# Altium footprint library EFC8811R-TF.PcbLib: 1 footprints
Each footprint in its own frame and in the unit in brackets; x right, y up, seen from the top. Pads: shape width x height; smd on the part's side, far side on the other; paste and mask are expansions set on the pad; w line width, h text height; cw(c..) or ccw(c..) is an arc to the next point about the centre after c.
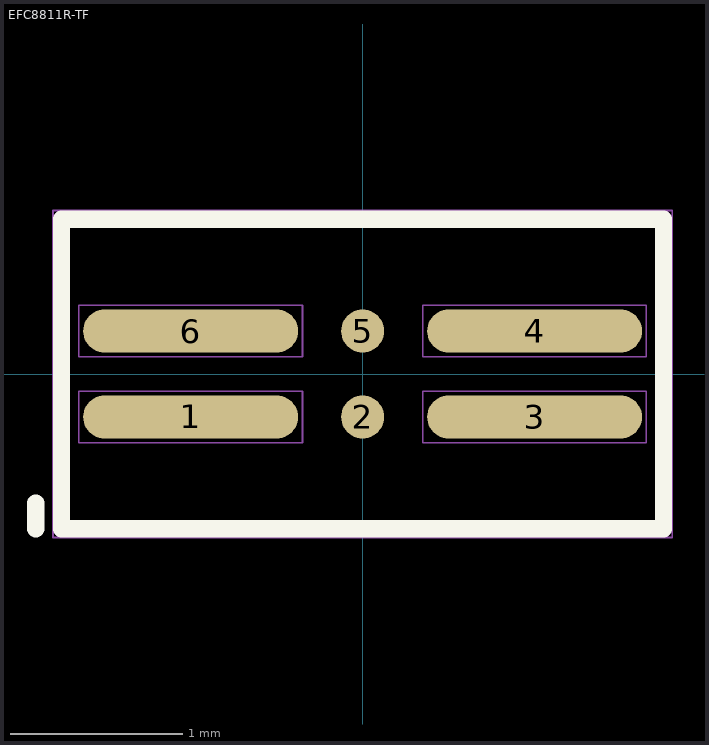
[diagram p0: the footprint, top view; thin cyan lines are the x and y axes]

## EFC8811R-TF [mm]
pads (6):
  oval 1.25x0.25 smd mask+0: 1(-1,-0.25) 3(1,-0.25) 4(1,0.25) 6(-1,0.25)
  round 0.25 smd mask+0: 2(0,-0.25) 5(0,0.25)
Top Overlay:
  lines w0.1: -1.9,-0.9 -1.9,-0.75 ; -1.75,-0.9 0,-0.9 1.75,-0.9 1.75,0.9 -1.75,0.9 -1.75,0.25 -1.75,-0.9
Mechanical 3:
  lines w0.1: -1.75,-0.9 1.75,-0.9 1.75,-0.65 1.75,0.9 -1.75,0.9 -1.75,-0.85
Mechanical 5:
  circle w0.01: c0,0.25 r0.112
  circle w0.01: c0,-0.25 r0.112
  lines w0.01: -1.65,-0.4 -1.65,-0.35 -1.65,-0.1 -0.35,-0.1 -0.35,-0.4 -1.65,-0.4 ; -1.65,0.1 -0.35,0.1 -0.35,0.4 -1.65,0.4 -1.65,0.15 -1.65,0.1 ; 0.35,-0.4 1.65,-0.4 1.65,-0.1 0.35,-0.1 0.35,-0.35 0.35,-0.4 ; 0.35,0.1 1.65,0.1 1.65,0.4 0.35,0.4 0.35,0.15 0.35,0.1
Mechanical 7:
  lines w0.01: -1.8,-0.95 -1.8,0.95 -0.35,0.95 1.8,0.95 1.8,-0.85 1.8,-0.95 -1.4,-0.95 -1.8,-0.95
Mechanical 9:
  lines w0.01: -1.65,-0.4 -0.35,-0.4 -0.35,-0.1 -1.65,-0.1 -1.65,-0.4
  text "'.Designator'" at -2.7,-0.2 h1
3D body: height 0.22, standoff 0, extent -1.75,-0.9 1.75,0.9